# Altium schematic symbol library LM2901DT.SchLib: 1 symbol
Pins are listed as number, name and electrical type; pins without a type are passive.

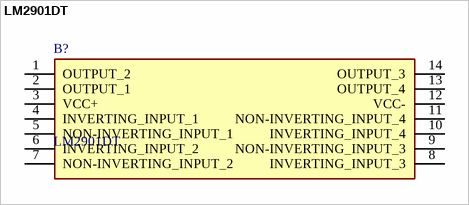
[diagram p0: symbol LM2901DT]

## LM2901DT
designator B?
LM2901DT, Quad Comparator Open Collector 1.3us 12 V, 15 V, 18 V, 24 V, 28 V, 3 V, 5 V, 9 V 14-Pin SO; Manufacturer_Name: STMicroelectronics; Geometry.Height: 1.75mm; Mouser Part Number: 511-LM2901DT; Mouser Price/Stock: https://www.mouser.co.uk/ProductDetail/STMicroelectronics/LM2901DT?qs=dKKAVK9nnHN1RlpYJ88XIQ%3D%3D; Manufacturer_Part_Number: LM2901DT; Datasheet Link: http://www.st.com/st-web-ui/static/active/en/resource/technical/document/datasheet/CD00000532.pdf
footprint SOIC127P600X175-14N
pins: 1 OUTPUT_2, 2 OUTPUT_1, 3 VCC+, 4 INVERTING_INPUT_1, 5 NON-INVERTING_INPUT_1, 6 INVERTING_INPUT_2, 7 NON-INVERTING_INPUT_2, 8 INVERTING_INPUT_3, 9 NON-INVERTING_INPUT_3, 10 INVERTING_INPUT_4, 11 NON-INVERTING_INPUT_4, 12 VCC-, 13 OUTPUT_4, 14 OUTPUT_3